# Altium schematic symbol library Inductors.SchLib: 2 symbols
Pins are listed as number, name and electrical type; pins without a type are passive.

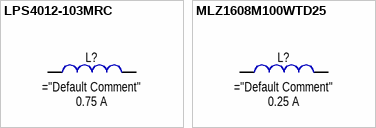
[diagram p0: symbols LPS4012-103MRC to MLZ1608M100WTD25]

## LPS4012-103MRC
designator L?  Rated Current: 0.75 A
Fixed Inductors 10uH Shld 20% 1.1A 350 mOhms; Manufacturer: Coilcraft; Part Number: LPS4012-103MRC; Power Dissipation: * W; Rated Voltage: * V; Other: Fixed inductor, 10 uH, Isat=1.1A, Imax=0.75A, Rmax=0.35Ohm Fsr=40MHz,; Case: 1515 (4040 metric); Operating Temperature: -40 °C to +85 °C; Type: inductor; HelpURL: https://eu.mouser.com/ProductDetail/Coilcraft/LPS4012-103MRC?qs=QQJxVsr8EGanxcNaj8pdMQ%3D%3D; Default Comment: 10 uH; Rated Power: * W; Tolerance: 20 %; Value: 10 uH; Summary: ="Type"+" "+"Part Number"+" "+"Manufacturer"+" "+"Value"+" "+"Tolerance"+" "+"Operating Temperature"+" "+"Case"+" "+"Power Dissipation"+" "+"Rated Current"+" "+"Rated Power"+" "+"Rated Voltage"+" "+"Other"; Assembly: *
footprint LPS4012-103MRC (3.90x3.90x1.10mm)
pins: 1, 2

## MLZ1608M100WTD25
designator L?  Rated Current: 0.25 A
FIXED IND 10UH 250MA 1.05OHM SMD; Manufacturer: TDK Corporation; Part Number: MLZ1608M100WTD25; Type: inductor; Power Dissipation: * W; Rated Voltage: * V; Tolerance: 20 %; Other: 10 µH Shielded Multilayer Inductor 250 mA 1.05Ohm 0603 (1608 Metric); Case: 0603; Operating Temperature: -55 °C to +125 °C; HelpURL: https://www.digikey.com/en/products/detail/tdk-corporation/MLZ1608M100WTD25/4743176; Default Comment: 10 uH; Rated Power: * W; Value: 10 uH; Summary: ="Type"+" "+"Part Number"+" "+"Manufacturer"+" "+"Value"+" "+"Tolerance"+" "+"Operating Temperature"+" "+"Case"+" "+"Power Dissipation"+" "+"Rated Current"+" "+"Rated Power"+" "+"Rated Voltage"+" "+"Other"; Assembly: *
footprint MLZ1608M100WTD25 (0603 chip inductor)
pins: 1, 2